# Altium schematic symbol library Switch.SCHLIB: 1 symbol
Pins are listed as number, name and electrical type; pins without a type are passive.

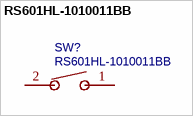
[diagram p0: symbol RS601HL-1010011BB]

## RS601HL-1010011BB
designator SW?
BOM_Manufacturer: HCTL(华灿天禄); Contributor: lcsc; BOM_Supplier: LCSC; BOM_Supplier Part: C2885782; BOM_Manufacturer Part: RS601HL-1010011BB; link: https://atta.szlcsc.com/upload/public/pdf/source/20210820/B1970E40D09304D7FA648AE2099FB3E8.pdf; BOM_JLCPCB Part Class: Extended Part; spicePre: S; spiceSymbolName: RS601HL-1010011BB
pins: 1, 2